# EAGLE library part A3909 (library dsantoro-misc)
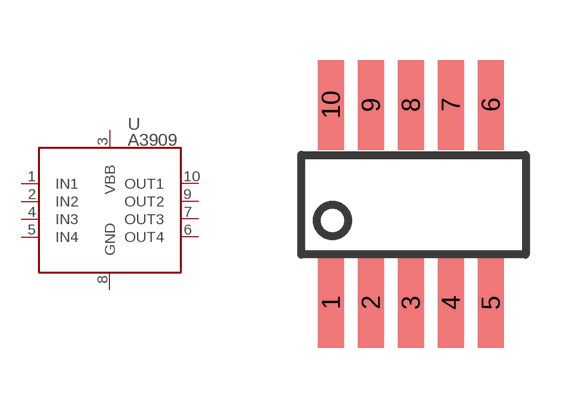
[diagram p1: symbol with the pads of SSOP10; footprint SSOP10]

Designator prefix U

## A3909  [SSOP10]
1  IN1
2  IN2
3  VBB
4  IN3
5  IN4
6  OUT4
7  OUT3
8  GND
9  OUT2
10  OUT1

## Footprint SSOP10 (pad centres in mm)
Small Shrink Outline Package
smd 0.65 x 2.25: 1 -2,-1.95; 2 -1,-1.95; 3 0,-1.95; 4 1,-1.95; 5 2,-1.95; 6 2,3; 7 1,3; 8 0,3; 9 -1,3; 10 -2,3